# Altium footprint library 0734120110.PcbLib: 1 footprints
Each footprint in its own frame and in the unit in brackets; x right, y up, seen from the top. Pads: shape width x height; smd on the part's side, far side on the other; paste and mask are expansions set on the pad; w line width, h text height; cw(c..) or ccw(c..) is an arc to the next point about the centre after c.
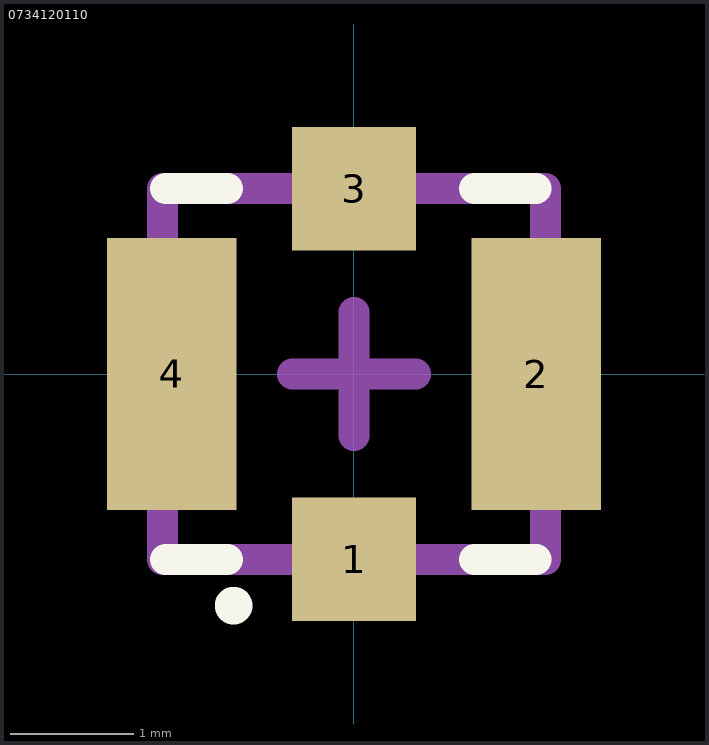
[diagram p0: the footprint, top view; thin cyan lines are the x and y axes]

## 0734120110 [mm]
pads (4):
  rect 1x1 smd mask+0.051: 1(0,-1.5) 3(0,1.5)
  rect 1.05x2.2 smd mask+0.051: 2(1.475,0) 4(-1.475,0)
Top Overlay:
  circle w0.254: c-0.975,-1.875 r0.025
  lines w0.25: -1.525,-1.5 -1.025,-1.5 ; -1.525,1.5 -1.025,1.5 ; 0.975,-1.5 1.475,-1.5 ; 0.975,1.5 1.475,1.5
Top Designator:
  text ".Designator" at -7.618,-0.508 h1.52
3D Body:
  lines w0.25: -1.55,-1.5 1.55,-1.5 1.55,1.5 -1.55,1.5 -1.55,-1.5
Center Cross:
  lines w0.25: -0.5,0 0,0 ; 0,-0.5 0,0 ; 0,0.5 0,0 ; 0.5,0 0,0
3D body "734120110.stp": height 1.3, standoff 0, extent -1.5,-1.54 1.5,1.54